# EAGLE library part PSM01-082A-103B2 (library PSM01-082A-103B2)
Bourns Potentiometer PSM Series with a 6 x 1.2 mm Dia. Shaft 10k +/-20% 0.5W, Linear, PCB Mount Source: Datasheet <https://4donline.ihs.com/images/VipMasterIC/IC/BOUR/BOUR-S-A0009830518/BOUR-S-A0009830518-1.pdf?hkey=EF798316E3902B6ED9A73243A3159BB0>
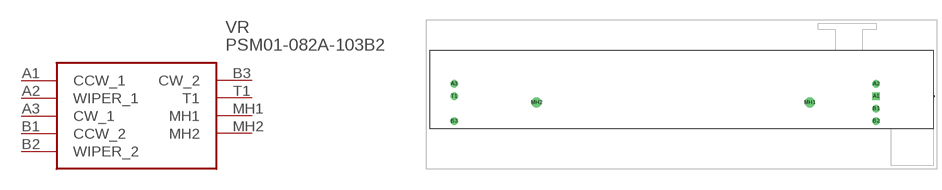
[diagram p0: symbol with the pads of PSM01082A103B2; footprint PSM01082A103B2]

Designator prefix VR

## PSM01-082A-103B2 (Arrow_Part_Number: PSM01-082A-103B2; Arrow_Price-Stock: https://www.arrow.com/en/products/psm01-082a-103b2/bourns?region=nac; Description: Bourns Potentiometer PSM Series with a 6 x 1.2 mm Dia. Shaft 10k +/-20% 0.5W, Linear, PCB Mount; Height: 13mm; Manufacturer_Name: Bourns; Manufacturer_Part_Number: PSM01-082A-103B2; Mouser_Part_Number: 652-PSM01082A103B2; Mouser_Price-Stock: https://www.mouser.co.uk/ProductDetail/Bourns/PSM01-082A-103B2?qs=MAZTpT1IVl8rvdecO07rRA%3D%3D)  [PSM01082A103B2]
A1  CCW_1
A2  WIPER_1
A3  CW_1
B1  CCW_2
B2  WIPER_2
B3  CW_2
MH1  MH1
MH2  MH2
T1  T1

## Footprint PSM01082A103B2 (pad centres in mm)
PSM01-082A-103B2-3
drill 1.5 pad 2.25 square: A1 0,0
drill 1.5 pad 2.25: A2 0,3.75; A3 -127.5,3.75; B1 0,-3.75; B2 0,-7.5; B3 -127.5,-7.5; T1 -127.5,0
drill 2 pad 3: MH1 -20.05,-1.875; MH2 -102.55,-1.875